# EAGLE library part TSC2013QRSARQ1 (library circuit_tree)
IC
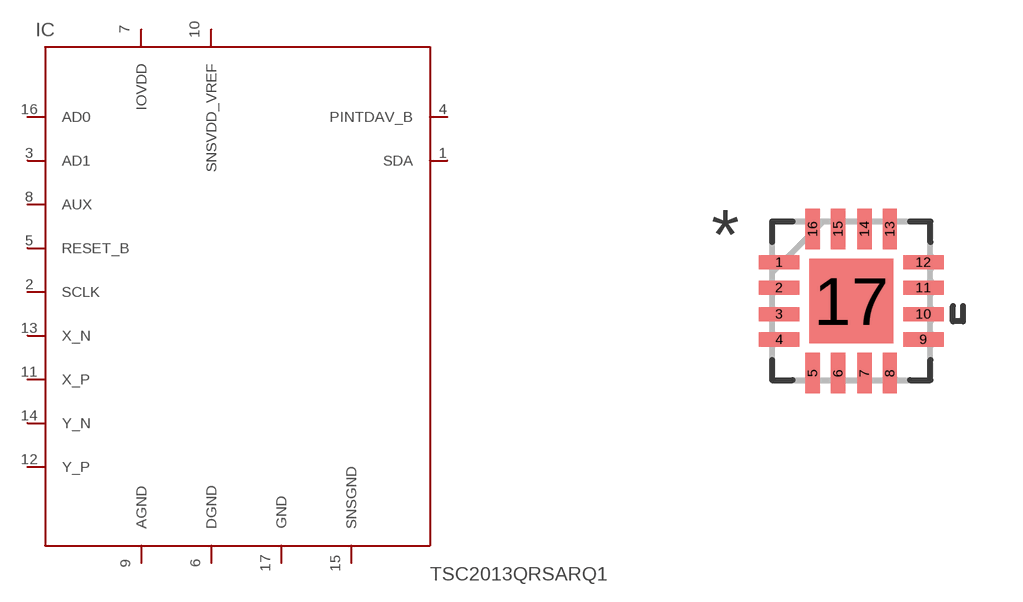
[diagram p8: symbol with the pads of QFN65P400X400X100-17N; footprint QFN65P400X400X100-17N]

Designator prefix IC

## TSC2013QRSARQ1  [QFN65P400X400X100-17N]
1  SDA  pas
2  SCLK  pas
3  AD1  pas
4  PINTDAV_B  pas
5  RESET_B  pas
6  DGND  pas
7  IOVDD  pas
8  AUX  pas
9  AGND  pas
10  SNSVDD_VREF  pas
11  X_P  pas
12  Y_P  pas
13  X_N  pas
14  Y_N  pas
15  SNSGND  pas
16  AD0  pas
17  GND  pas

## Footprint QFN65P400X400X100-17N (pad centres in mm)
smd 1.016 x 0.356: 1 -1.803,0.965; 2 -1.803,0.33; 3 -1.803,-0.33; 4 -1.803,-0.965; 9 1.803,-0.965; 10 1.803,-0.33; 11 1.803,0.33; 12 1.803,0.965
smd 0.356 x 1.016: 5 -0.965,-1.803; 6 -0.33,-1.803; 7 0.33,-1.803; 8 0.965,-1.803; 13 0.965,1.803; 14 0.33,1.803; 15 -0.33,1.803; 16 -0.965,1.803
smd 2.108 x 2.108: 17 0,0